# Altium schematic symbol library CB057D0105JBC.SchLib: 1 symbol
Pins are listed as number, name and electrical type; pins without a type are passive.

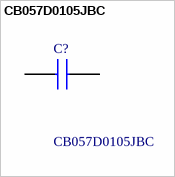
[diagram p0: symbol CB057D0105JBC]

## CB057D0105JBC
designator C?
1 F Film Capacitor 40V 63V Polyester, Polyethylene Naphthalate (PEN), Metallized - Stacked 2824 (7260 Metric); Manufacturer_Name: Kyocera AVX; Geometry.Height: 4.7mm; Farnell Part Number: *; Farnell Price/Stock: *; Manufacturer_Part_Number: CB057D0105JBC; Datasheet Link: https://datasheets.kyocera-avx.com/cb-pen.pdf
footprint CAPC7361X470N
pins: 1, 2